# EAGLE library part INA332 (library ti)
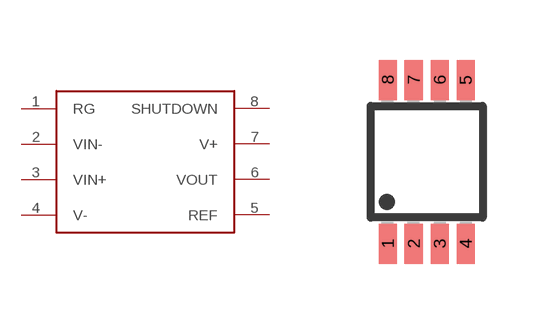
[diagram p14: symbol with the pads of MSOP8; footprint MSOP8]

Designator prefix -

## INA332  [MSOP8]
1  RG  in
2  VIN-  in
3  VIN+  in
4  V-  sup
5  REF  in
6  VOUT  out
7  V+  pwr
8  SHUTDOWN  in

## Footprint MSOP8 (pad centres in mm)
Micro Small Outline Package Grid .65mm
smd 0.45 x 1: 1 -0.975,-2.05; 2 -0.325,-2.05; 3 0.325,-2.05; 4 0.975,-2.05; 5 0.975,2.05; 6 0.325,2.05; 7 -0.325,2.05; 8 -0.975,2.05